# EAGLE library part TEXAS_INSTRUMENTS-BUCK_CONVERTER-RTLV62085RLTR (library Module_Regulators)
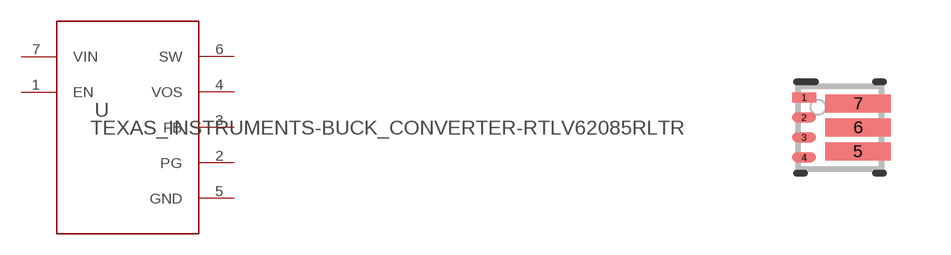
[diagram p27: symbol with the pads of TEXAS_INSTRUMENTS-BUCK_CONVERTER-RTLV62085RLTR/BUCK_CONVERTER-TPS62087RLTR; footprint TEXAS_INSTRUMENTS-BUCK_CONVERTER-RTLV62085RLTR/BUCK_CONVERTER-TPS62087RLTR]

Designator prefix U

## TEXAS_INSTRUMENTS-BUCK_CONVERTER-RTLV62085RLTR (MANUFACTURER: Texas Instruments; PARTNUMBER: TLV62085RLTR; REFDES: RefDes; TYPE: TYPE; VALUE: Value)  [TEXAS_INSTRUMENTS-BUCK_CONVERTER-RTLV62085RLTR/BUCK_CONVERTER-TPS62087RLTR]
1  EN  in
2  PG  oc
3  FB  in
4  VOS  in
5  GND  pwr
6  SW  pwr
7  VIN  pwr

## Footprint TEXAS_INSTRUMENTS-BUCK_CONVERTER-RTLV62085RLTR/BUCK_CONVERTER-TPS62087RLTR (pad centres in mm)
smd 0.6 x 0.25: 1 -0.9,0.75; 2 -0.9,0.25; 3 -0.9,-0.25; 4 -0.9,-0.75
smd 1.64 x 0.44: 5 0.45,-0.6; 6 0.45,0; 7 0.45,0.6